# EAGLE library part AD8418A (library Semiconductors > Integrated Circuits - ICs > Amplifier ICs > Current Sense Amplifiers)
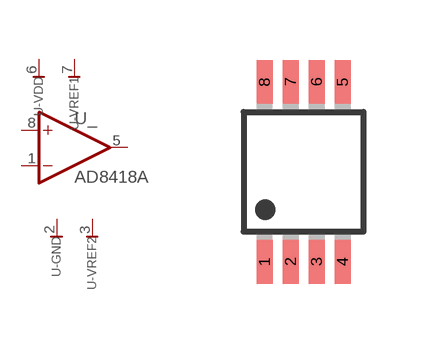
[diagram p1: symbol with the pads of MSOP-8; footprint MSOP-8]

Designator prefix U; gates _=AD8418 -GND=POW -VREF2=POW -VDD=POW -VREF1=POW

## AD8418A  [MSOP-8]
1  _:IN-
2  -GND:P$1
3  -VREF2:P$1
5  _:O
6  -VDD:P$1
7  -VREF1:P$1
8  _:IN+

## Footprint MSOP-8 (pad centres in mm)
8M, 8-Lead, 0.118" Wide, Miniature Small Outline Package MSOP 8M-Package doc1097.pdf
smd 0.4 x 1.1: 1 -0.975,-2.25; 2 -0.325,-2.25; 3 0.325,-2.25; 4 0.975,-2.25; 5 0.975,2.25; 6 0.325,2.25; 7 -0.325,2.25; 8 -0.975,2.25